# Altium footprint library PcbLib1.PcbLib: 2 footprints
Each footprint in its own frame and in the unit in brackets; x right, y up, seen from the top. Pads: shape width x height; smd on the part's side, far side on the other; paste and mask are expansions set on the pad; w line width, h text height; cw(c..) or ccw(c..) is an arc to the next point about the centre after c.
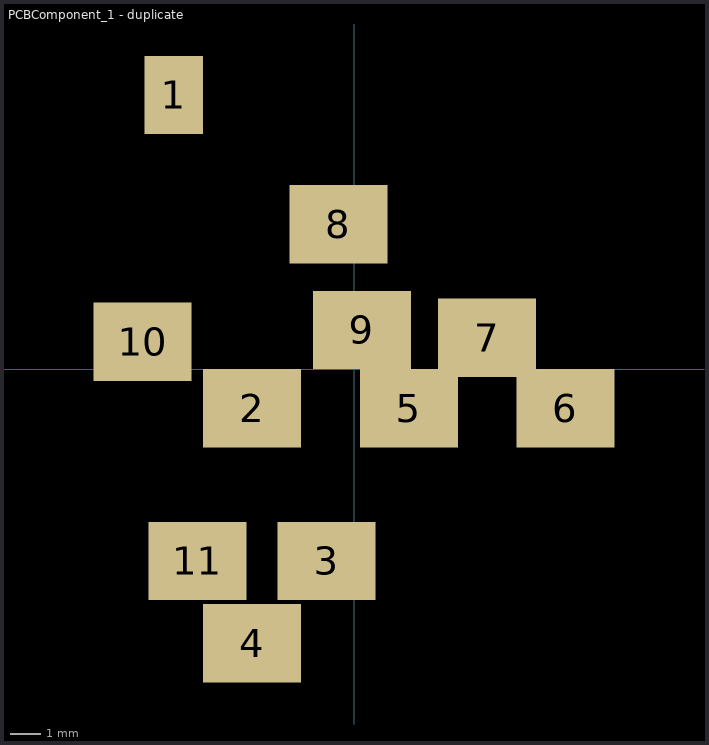
[diagram p0: the footprints below, top view; thin cyan lines are the x and y axes]

## PCBComponent_1 [mil]

## PCBComponent_1 - duplicate [mil]
pads (11):
  rect 75x100 smd: 1(-230,350)
  rect 125x100 smd: 2(-130,-50) 3(-35,-245) 4(-130,-350) 5(70,-50) 6(270,-50) 7(170,40) 8(-20,185) 9(10,50) 10(-270,35) 11(-200,-245)